# Altium footprint library custom-case.PcbLib: 168 footprints (part 3 of 11)
Each footprint in its own frame and in the unit in brackets; x right, y up, seen from the top. Pads: shape width x height; smd on the part's side, far side on the other; paste and mask are expansions set on the pad; w line width, h text height; cw(c..) or ccw(c..) is an arc to the next point about the centre after c.
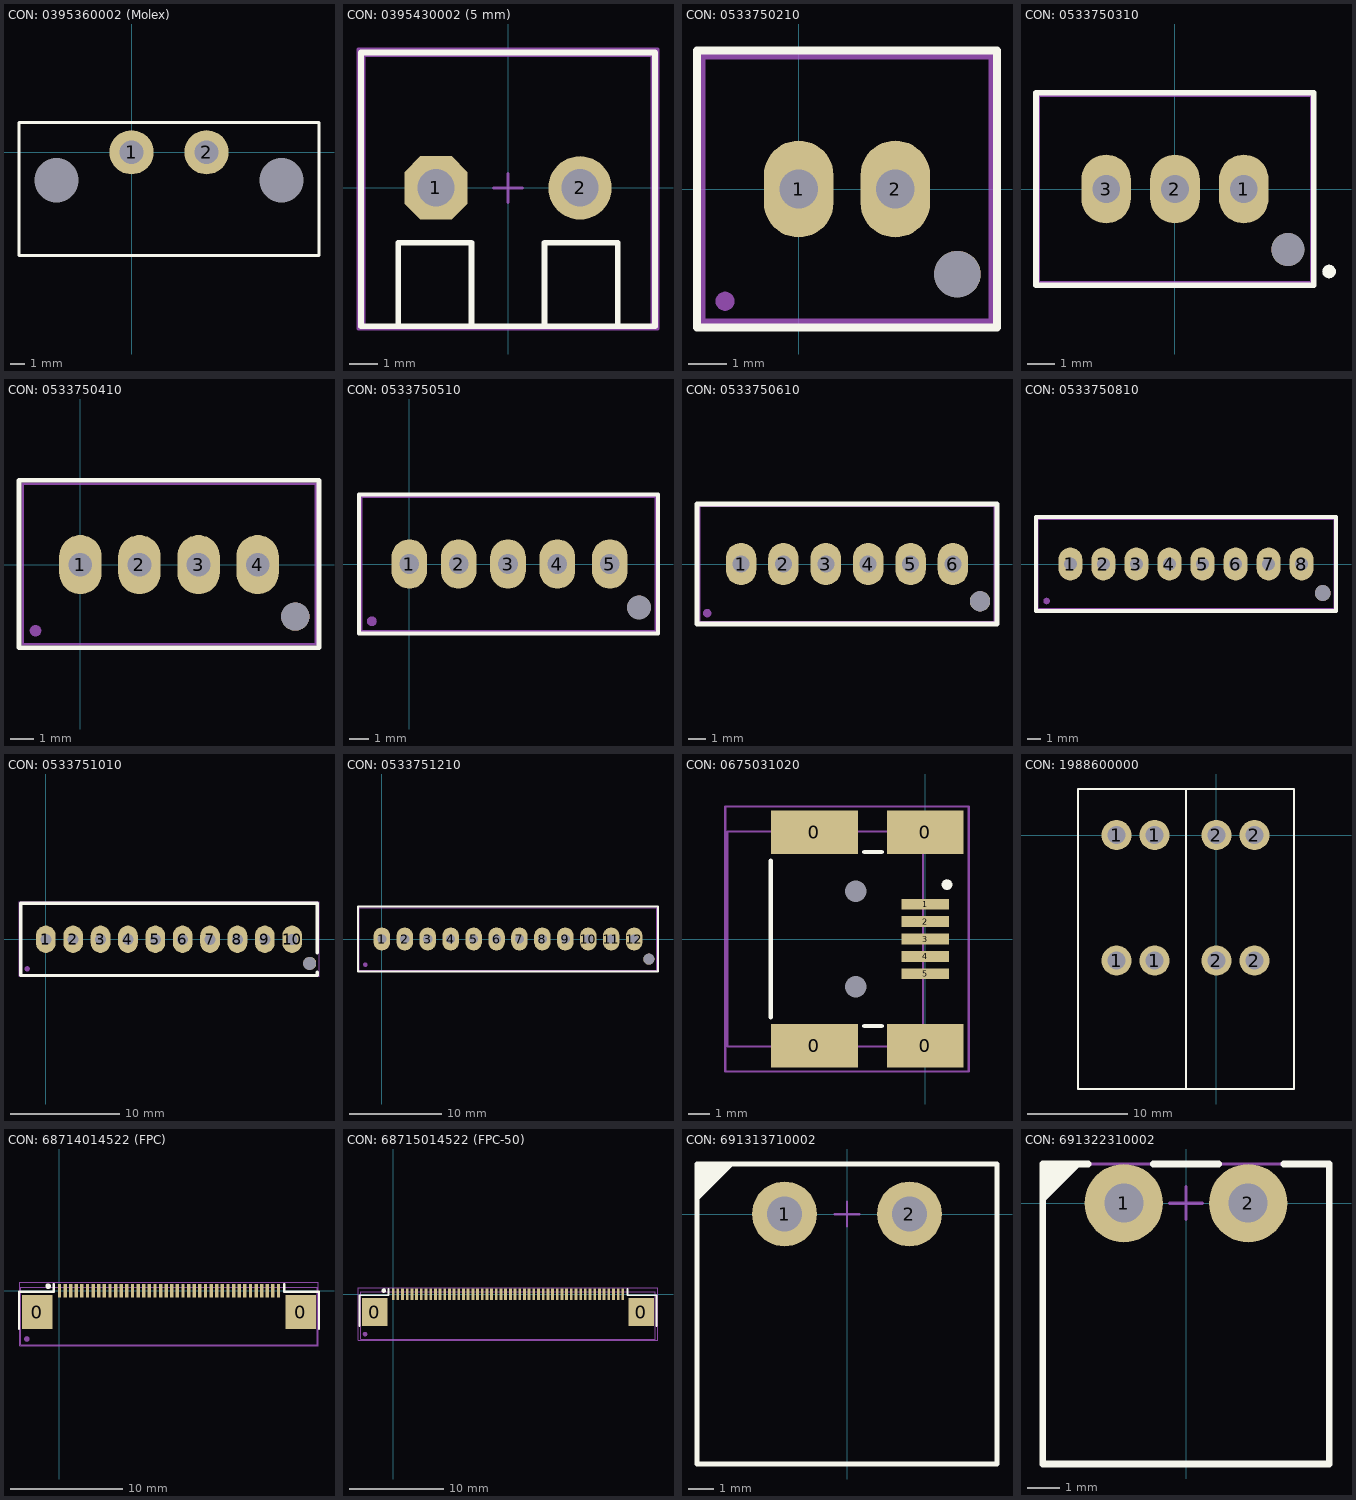
[diagram p2: the footprints below, top view; thin cyan lines are the x and y axes]

## CON: 0395360002 (Molex) [mm]
pads (4):
  round 3 hole 1.6: 1(0,0) 2(5.08,0)
  round 0 hole 3: MH(-5.08,-1.9) MH(10.16,-1.9)
Top Overlay:
  lines w0.2: -7.625,-7 12.7,-7 12.7,2.025 -7.625,2.025 -7.625,-7
Top Assy:
  lines w0.1: -7.625,-7 -7.625,2.025 12.7,2.025 12.7,-7 -7.625,-7
Size Area:
  lines w0.1: -7.625,-7 12.7,-7 12.7,2.025 -7.625,2.025 -7.625,-7
3D body "395360002-1.STEP": height 8.47, standoff -3.72, extent -7.625,-10.07 12.695,2.02

## CON: 0395430002 (5 mm) [mm] "2 pin 5.08mm screw connector"
height 12.5
pads (2):
  oct 2.2x2.2 hole 1.3: 1(-2.5,0)
  round 2.2 hole 1.3: 2(2.5,0)
Top Overlay:
  lines w0.2: -3.81,-4.8 -3.81,-1.905 -1.27,-1.905 -1.27,-4.8 ; 1.27,-4.8 1.27,-1.905 3.81,-1.905 3.81,-4.8 ; -5.1,-4.8 5.1,-4.8 5.1,4.7 -5.1,4.7 -5.1,-4.8
Top Assy:
  lines w0.1: -3.8,-4.799 -3.8,-1.9 -1.3,-1.9 -1.3,-4.799 ; 1.3,-4.8 1.3,-1.9 3.8,-1.9 3.8,-4.799 ; -5.004,-4.799 -5.004,4.599 5.004,4.599 5.004,-4.799 -5.004,-4.799
Size Area:
  lines w0.1: -0.5,0 0.5,0 ; 0,-0.5 0,0.5 ; -5.207,-4.9 5.207,-4.9 5.207,4.826 -5.207,4.826 -5.207,-4.9
3D body "395430002.SLDPRT": height 14.63, standoff -3.43, extent -5.004,-4.799 5.004,4.599

## CON: 0533750210 [mm] "MOLEX Mini-Lock"
height 11.5
pads (4):
  oval 1.8x2.5 hole 1: 1(0,0) 2(2.5,0)
  round 0.5 on Mech1: ""(-1.9,-2.9)
  round 1.2 hole 1.2: ""(4.1,-2.2)
Top Overlay:
  lines w0.2: -2.625,-3.575 -2.625,3.575 5.125,3.575 5.125,-3.575 -2.625,-3.575
Top Assy:
  lines w0.1: -2.45,-3.4 -2.45,3.4 4.95,3.4 4.95,-3.4 -2.45,-3.4
Size Area:
  lines w0.1: -2.5,-3.5 5,-3.5 5,3.5 -2.5,3.5 -2.5,-3.5
3D body "533750210.stp": height 11.75, standoff -3.18, extent -2.45,-3.4 4.95,3.4

## CON: 0533750310 [mm]
pads (6):
  oval 1.8x2.5 hole 1: 1(2.5,0) 2(0,0) 3(-2.5,0)
  round 1.2 hole 1.2: ""(4.1,-2.2)
  round 0.5 on Mech1: ""(4.1,-2.2)
  round 0.5 on Top Overlay: ""(5.6,-3)
Top Overlay:
  lines w0.2: -5.05,-3.5 -5.05,3.5 5.05,3.5 5.05,-3.5 -5.05,-3.5
Top Assy:
  lines w0.1: -4.95,-3.4 4.95,-3.4 4.95,3.4 -4.95,3.4 -4.95,-3.4
Size Area:
  lines w0.1: -0.5,0 0.5,0 ; 0,-0.5 0,0.5 ; -5,-3.5 -5,3.5 5,3.5 5,-3.5 -5,-3.5
3D body "533750310.stp": height 11.55, standoff -3.38, extent -4.95,-3.4 4.95,3.4

## CON: 0533750410 [mm] "MOLEX Mini-Lock"
height 11.5
pads (6):
  oval 1.8x2.5 hole 1: 1(0,0) 2(2.5,0) 3(5,0) 4(7.5,0)
  round 0.5 on Mech1: ""(-1.9,-2.8)
  round 1.2 hole 1.2: ""(9.1,-2.2)
Top Overlay:
  lines w0.2: -2.6,-3.525 10.1,-3.525 10.1,3.575 -2.6,3.575 -2.6,-3.525
Top Assy:
  lines w0.1: -2.441,-3.374 9.959,-3.374 9.959,3.426 -2.441,3.426 -2.441,-3.374
3D body "533750410.stp": height 11.55, standoff -3.38, extent -2.441,-3.374 9.959,3.426

## CON: 0533750510 [mm] "MOLEX Mini-Lock"
height 11.5
pads (7):
  oval 1.8x2.5 hole 1: 1(0,0) 2(2.5,0) 3(5,0) 4(7.5,0) 5(10.16,0)
  round 0.5 on Mech1: ""(-1.9,-2.9)
  round 1.2 hole 1.2: ""(11.64,-2.2)
Top Overlay:
  lines w0.2: -2.55,-3.525 12.6,-3.525 12.6,3.525 -2.55,3.525 -2.55,-3.525
Top Assy:
  lines w0.1: -2.425,-3.4 -2.425,3.4 12.475,3.4 12.475,-3.4 -2.425,-3.4
Size Area:
  lines w0.1: -2.6,-3.5 12.6,-3.5 12.6,3.5 -2.6,3.5 -2.6,-3.5
3D body "533750510.stp": height 11.55, standoff -3.38, extent -2.425,-3.4 12.475,3.4

## CON: 0533750610 [mm] "MOLEX Mini-Lock"
height 11.5
pads (8):
  oval 1.8x2.5 hole 1: 1(10,0) 2(12.5,0) 3(15,0) 4(17.5,0) 5(20,0) 6(22.5,0)
  round 0.5 on Mech1: ""(8,-2.9)
  round 1.2 hole 1.2: ""(24.1,-2.2)
Top Overlay:
  lines w0.3: 7.4,-3.55 25.1,-3.55 25.1,3.55 7.4,3.55 7.4,-3.55
Top Assy:
  lines w0.1: 7.55,-3.4 7.55,3.4 24.95,3.4 24.95,-3.4 7.55,-3.4
3D body "533750610.stp": height 11.55, standoff -3.38, extent 7.55,-3.4 24.95,3.4

## CON: 0533750810 [mm] "MOLEX Mini-Lock"
height 11.5
pads (10):
  oval 1.8x2.5 hole 1: 1(5,0) 2(7.5,0) 3(10,0) 4(12.5,0) 5(15,0) 6(17.5,0) 7(20,0) 8(22.5,0)
  round 0.5 on Mech1: ""(3.2,-2.8)
  round 1.2 hole 1.2: ""(24.1,-2.2)
Top Overlay:
  lines w0.3: 2.4,-3.55 2.4,3.55 25.1,3.55 25.1,-3.55 2.4,-3.55
Top Assy:
  lines w0.1: 2.55,-3.4 2.55,3.4 24.95,3.4 24.95,-3.4 2.55,-3.4
3D body "533750810.stp": height 11.55, standoff -3.38, extent 2.55,-3.4 24.95,3.4

## CON: 0533751010 [mm] "MOLEX Mini-Lock"
height 11.5
pads (12):
  oval 1.8x2.5 hole 1: 1(0,0) 2(2.5,0) 3(5,0) 4(7.5,0) 5(10,0) 6(12.5,0) 7(15,0) 8(17.5,0) 9(20,0) 10(22.5,0)
  round 0.5 on Mech1: ""(-1.7,-2.7)
  round 1.2 hole 1.2: ""(24.1,-2.2)
Top Overlay:
  lines w0.3: 24.8,-3 24.8,-3.3 -2.3,-3.3 -2.3,3.3 24.8,3.3 24.8,-1.25
Top Assy:
  lines w0.1: -2.448,-3.374 24.952,-3.374 24.952,3.426 -2.448,3.426 -2.448,-3.374
3D body "533751010.stp": height 11.55, standoff -3.38, extent -2.448,-3.374 24.952,3.426

## CON: 0533751210 [mm] "MOLEX Mini-Lock"
height 11.5
pads (14):
  oval 1.8x2.5 hole 1: 1(0,0) 2(2.5,0) 3(5,0) 4(7.5,0) 5(10,0) 6(12.5,0) 7(15,0) 8(17.5,0) 9(20,0) 10(22.5,0) 11(25,0) 12(27.5,0)
  round 0.5 on Mech1: ""(-1.8,-2.8)
  round 1.2 hole 1.2: ""(29.1,-2.2)
Top Overlay:
  lines w0.254: -2.6,-3.55 30.1,-3.55 30.1,3.55 -2.6,3.55 -2.6,-3.55
Top Assy:
  lines w0.1: -2.45,-3.4 29.95,-3.4 29.95,3.4 -2.45,3.4 -2.45,-3.4
3D body "533751210.stp": height 11.55, standoff -3.38, extent -2.45,-3.4 29.95,3.4

## CON: 0675031020 [mm]
pads (13):
  rect 4x2 smd: 0(-5.1,-4.9) 0(-5.1,4.9)
  rect 3.5x2 smd: 0(0,-4.9) 0(0,4.9)
  rect 2.2x0.5 smd: 1(0,1.6) 2(0,0.8) 3(0,0) 4(0,-0.8) 5(0,-1.6)
  round 0 hole 1: ""(-3.2,-2.2) ""(-3.2,2.2)
  round 0.5 on Mech1: ""(-0.6,4.5)
  round 0.5 on Top Overlay: ""(1,2.5)
Top Overlay:
  lines w0.2: -7.1,-3.6 -7.1,3.6 ; -2.8,-4 -2,-4 ; -2.8,4 -2,4
Top Assy:
  lines w0.1: -9.1,-4.95 -9.1,4.95 -0.1,4.95 -0.1,-4.95 -9.1,-4.95
Size Area:
  lines w0.1: -9.2,-6.1 -9.2,6.1 2,6.1 2,-6.1 -9.2,-6.1
3D body "675031020.stp": height 3.95, standoff -1, extent -9.1,-4.95 -0.1,4.95

## CON: 1988600000 [mm]
pads (8):
  round 3 hole 1.8: 1(-9.95,-12.5) 1(-9.95,0) 1(-6.15,-12.5) 1(-6.15,0) 2(0,-12.5) 2(0,0) 2(3.8,-12.5) 2(3.8,0)
Top Overlay:
  lines w0.2: -3.025,-25.3 -3.025,4.602 ; -13.812,-25.3 7.762,-25.3 7.762,4.602 -13.812,4.602 -13.812,-25.3
Top Assy:
  lines w0.1: -3.025,-25.3 -3.025,4.602 ; -13.812,-25.3 -13.812,4.602 7.762,4.602 7.762,-25.3 -13.812,-25.3
Size Area:
  lines w0.1: -13.812,-25.3 -13.812,4.602 7.762,4.602 7.762,-25.3 -13.812,-25.3
3D body "1988600000.stp": height 41.24, standoff -5, extent -13.812,-25.3 7.762,4.602

## CON: 68714014522 (FPC) [mm]
pads (44):
  rect 2.7x3 smd: 0(-1.975,-1.9) 0(21.475,-1.9)
  rect 0.3x1.2 smd: 1(0,0) 2(0.5,0) 3(1,0) 4(1.5,0) 5(2,0) 6(2.5,0) 7(3,0) 8(3.5,0) 9(4,0) 10(4.5,0) 11(5,0) 12(5.5,0) 13(6,0) 14(6.5,0) 15(7,0) 16(7.5,0) 17(8,0) 18(8.5,0) 19(9,0) 20(9.5,0) 21(10,0) 22(10.5,0) 23(11,0) 24(11.5,0) 25(12,0) 26(12.5,0) 27(13,0) 28(13.5,0) 29(14,0) 30(14.5,0) 31(15,0) 32(15.5,0) 33(16,0) 34(16.5,0) 35(17,0) 36(17.5,0) 37(18,0) 38(18.5,0) 39(19,0) 40(19.5,0)
  round 0.5 on Mech1: ""(-2.9,-4.3)
  round 0.5 on Top Overlay: ""(-1,0.4)
Top Overlay:
  lines w0.2: -3.6,-3.4 -3.6,-0.1 -0.5,-0.1 -0.5,0.6 ; 20,0.6 20,-0.1 23.1,-0.1 23.1,-3.4
Top Assy:
  lines w0.1: -3.45,-4.8 22.95,-4.8 22.95,0.3 -3.45,0.3 -3.45,-4.8
Size Area:
  lines w0.1: -3.55,-4.9 23.05,-4.9 23.05,0.75 -3.55,0.75 -3.55,-4.9
3D body "68714014522 (rev1).stp": height 2.1, standoff 0, extent -3.45,-4.8 22.95,0.3

## CON: 68715014522 (FPC-50) [mm]
pads (54):
  rect 2.7x3 smd: 0(-1.975,-1.9) 0(26.475,-1.9)
  rect 0.3x1.2 smd: 1(0,0) 2(0.5,0) 3(1,0) 4(1.5,0) 5(2,0) 6(2.5,0) 7(3,0) 8(3.5,0) 9(4,0) 10(4.5,0) 11(5,0) 12(5.5,0) 13(6,0) 14(6.5,0) 15(7,0) 16(7.5,0) 17(8,0) 18(8.5,0) 19(9,0) 20(9.5,0) 21(10,0) 22(10.5,0) 23(11,0) 24(11.5,0) 25(12,0) 26(12.5,0) 27(13,0) 28(13.5,0) 29(14,0) 30(14.5,0) 31(15,0) 32(15.5,0) 33(16,0) 34(16.5,0) 35(17,0) 36(17.5,0) 37(18,0) 38(18.5,0) 39(19,0) 40(19.5,0) 41(20,0) 42(20.5,0) 43(21,0) 44(21.5,0) 45(22,0) 46(22.5,0) 47(23,0) 48(23.5,0) 49(24,0) 50(24.5,0)
  round 0.5 on Mech1: ""(-3,-4.25)
  round 0.5 on Top Overlay: ""(-1,0.4)
Top Overlay:
  lines w0.2: -3.6,-3.4 -3.6,-0.1 -0.5,-0.1 -0.5,0.6 ; 25,0.6 25,-0.1 28.1,-0.1 28.1,-3.4
Top Assy:
  lines w0.1: -3.45,-4.8 -3.45,0.3 27.95,0.3 27.95,-4.8 -3.45,-4.8
Size Area:
  lines w0.1: -3.75,-4.9 28.25,-4.9 28.25,0.7 -3.75,0.7 -3.75,-4.9
3D body "68715014522 (rev1).stp": height 2.1, standoff 0, extent -3.45,-4.8 27.95,0.3

## CON: 691313710002 [mm]
pads (2):
  round 2.6 hole 1.4 mask+0.075: 1(-2.5,0) 2(2.5,0)
Top Overlay:
  region: -6,0.5 -4.5,2 -6,2
  lines w0.2: -6,-10 6,-10 6,2 -6,2 -6,-10
Top Assy:
  lines w0.1: -6,-10 6,-10 6,2 -6,2 -6,-10
Size Area:
  lines w0.1: -0.5,0 0.5,0 ; 0,-0.5 0,0.5 ; -6,-10 6,-10 6,2 -6,2 -6,-10
3D body "691313710002 (rev1).stp": height 9.25, standoff -2.75, extent -6,-10 6,2

## CON: 691322310002 [mm]
pads (2):
  round 2.4 hole 1.2 mask+0.075: 1(-1.905,0) 2(1.905,0)
Top Overlay:
  region: -4.4,0 -3.2,1.2 -4.4,1.2
  lines w0.2: -3,1.2 -4.4,1.2 -4.4,-8 4.4,-8 4.4,1.2 3,1.2 ; -1,1.2 1,1.2
Top Assy:
  lines w0.1: -4.4,-8 -4.4,1.2 4.4,1.2 4.4,-8 -4.4,-8
Size Area:
  lines w0.1: -0.5,0 0.5,0 ; 0,-0.5 0,0.5 ; -4.4,-8 4.4,-8 4.4,1.2 -4.4,1.2 -4.4,-8
3D body "691322310002 (rev1).stp": height 7.7, standoff -3, extent -4.405,-8 4.405,1.2